# EAGLE library part ARDUINO_MEGA (library Arduino_Board)
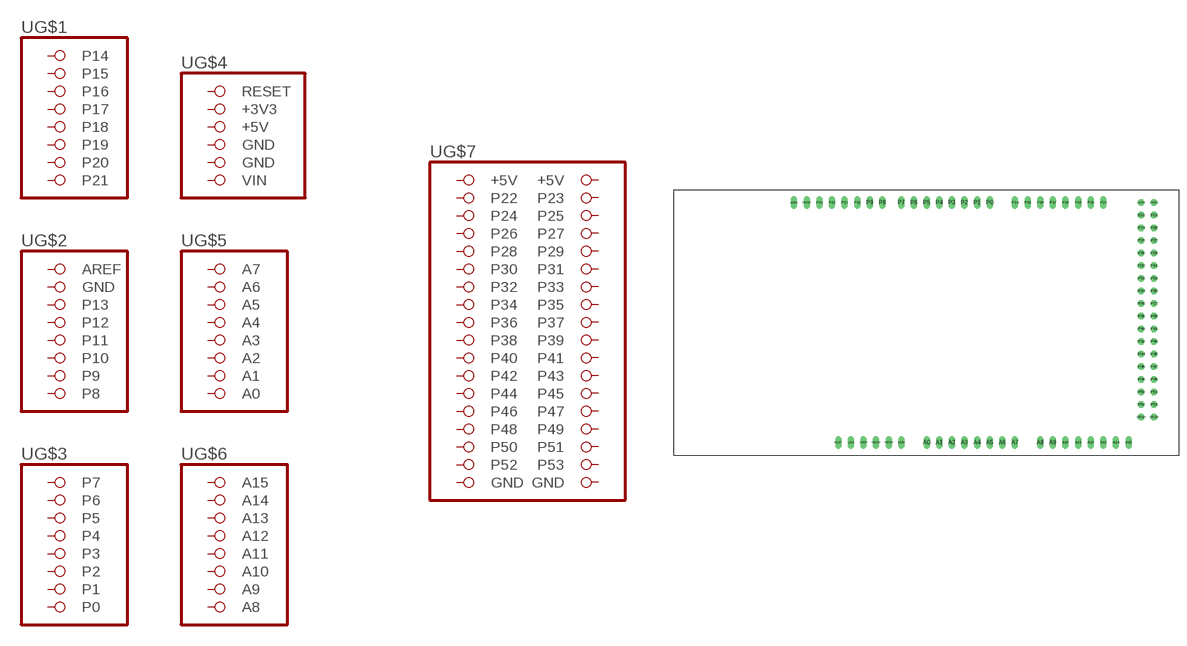
[diagram p5: symbol with the pads of ARDUINO_MEGA; footprint ARDUINO_MEGA]

Designator prefix -; gates G$1=AMEGA_COMMUNICATION G$2=AMEGA_PWMH G$3=AMEGA_PWML G$4=AMEGA_POWER G$5=AMEGA_ADCL G$7=AMEGA_DIGITAL G$6=AMEGA_ADCH

## ARDUINO_MEGA  [ARDUINO_MEGA]
+3V3  G$4:+3V3  pas
+5V@1  G$4:+5V  pas
+5V@2  G$7:+5V  pas
+5V@3  G$7:+5V  pas
A0  G$5:A0  pas
A1  G$5:A1  pas
A2  G$5:A2  pas
A3  G$5:A3  pas
A4  G$5:A4  pas
A5  G$5:A5  pas
A6  G$5:A6  pas
A7  G$5:A7  pas
A8  G$6:A8  pas
A9  G$6:A9  pas
A10  G$6:A10  pas
A11  G$6:A11  pas
A12  G$6:A12  pas
A13  G$6:A13  pas
A14  G$6:A14  pas
A15  G$6:A15  pas
AREF  G$2:AREF  pas
GND@1  G$2:GND  pas
GND@2  G$4:GND  pas
GND@3  G$4:GND  pas
GND@4  G$7:GND  pas
GND@5  G$7:GND  pas
P0  G$3:P0  pas
P1  G$3:P1  pas
P2  G$3:P2  pas
P3  G$3:P3  pas
P4  G$3:P4  pas
P5  G$3:P5  pas
P6  G$3:P6  pas
P7  G$3:P7  pas
P8  G$2:P8  pas
P9  G$2:P9  pas
P10  G$2:P10  pas
P11  G$2:P11  pas
P12  G$2:P12  pas
P13  G$2:P13  pas
P14  G$1:P14  pas
P15  G$1:P15  pas
P16  G$1:P16  pas
P17  G$1:P17  pas
P18  G$1:P18  pas
P19  G$1:P19  pas
P20  G$1:P20  pas
P21  G$1:P21  pas
P22  G$7:P22  pas
P23  G$7:P23  pas
P24  G$7:P24  pas
P25  G$7:P25  pas
P26  G$7:P26  pas
P27  G$7:P27  pas
P28  G$7:P28  pas
P29  G$7:P29  pas
P30  G$7:P30  pas
P31  G$7:P31  pas
P32  G$7:P32  pas
P33  G$7:P33  pas
P34  G$7:P34  pas
P35  G$7:P35  pas
P36  G$7:P36  pas
P37  G$7:P37  pas
P38  G$7:P38  pas
P39  G$7:P39  pas
P40  G$7:P40  pas
P41  G$7:P41  pas
P42  G$7:P42  pas
P43  G$7:P43  pas
P44  G$7:P44  pas
P45  G$7:P45  pas
P46  G$7:P46  pas
P47  G$7:P47  pas
P48  G$7:P48  pas
P49  G$7:P49  pas
P50  G$7:P50  pas
P51  G$7:P51  pas
P52  G$7:P52  pas
P53  G$7:P53  pas
RESET  G$4:RESET  pas
VIN  G$4:VIN  pas

## Footprint ARDUINO_MEGA (pad centres in mm)
drill 0.8 long: +3V3 35.56,2.54; +5V@1 38.1,2.54; A0 50.8,2.54; A1 53.34,2.54; A2 55.88,2.54; A3 58.42,2.54; A4 60.96,2.54; A5 63.5,2.54; A6 66.04,2.54; A7 68.58,2.54; A8 73.66,2.54; A9 76.2,2.54; A10 78.74,2.54; A11 81.28,2.54; A12 83.82,2.54; A13 86.36,2.54; A14 88.9,2.54; A15 91.44,2.54; AREF 24.13,50.8; GND@1 26.67,50.8; GND@2 40.64,2.54; GND@3 43.18,2.54; P0 63.5,50.8; P1 60.96,50.8; P2 58.42,50.8; P3 55.88,50.8; P4 53.34,50.8; P5 50.8,50.8; P6 48.26,50.8; P7 45.72,50.8; P8 41.91,50.8; P9 39.37,50.8; P10 36.83,50.8; P11 34.29,50.8; P12 31.75,50.8; P13 29.21,50.8; P14 68.58,50.8; P15 71.12,50.8; P16 73.66,50.8; P17 76.2,50.8; P18 78.74,50.8; P19 81.28,50.8; P20 83.82,50.8; P21 86.36,50.8; RESET 33.02,2.54; VIN 45.72,2.54
drill 0.8 octagon: +5V@2 93.98,50.8; +5V@3 96.52,50.8; GND@4 93.98,7.62; GND@5 96.52,7.62; P22 93.98,48.26; P23 96.52,48.26; P24 93.98,45.72; P25 96.52,45.72; P26 93.98,43.18; P27 96.52,43.18; P28 93.98,40.64; P29 96.52,40.64; P30 93.98,38.1; P31 96.52,38.1; P32 93.98,35.56; P33 96.52,35.56; P34 93.98,33.02; P35 96.52,33.02; P36 93.98,30.48; P37 96.52,30.48; P38 93.98,27.94; P39 96.52,27.94; P40 93.98,25.4; P41 96.52,25.4; P42 93.98,22.86; P43 96.52,22.86; P44 93.98,20.32; P45 96.52,20.32; P46 93.98,17.78; P47 96.52,17.78; P48 93.98,15.24; P49 96.52,15.24; P50 93.98,12.7; P51 96.52,12.7; P52 93.98,10.16; P53 96.52,10.16